# EAGLE library part TLP2168 (library collin)
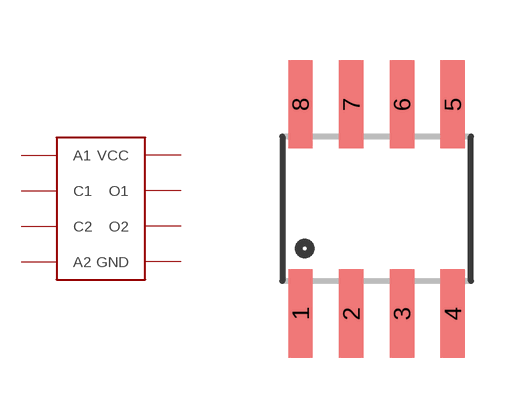
[diagram p3: symbol with the pads of SOIC8; footprint SOIC8]

Designator prefix -

## TLP2168  [SOIC8]
1  A1
2  C1
3  C2
4  A2
5  GND
6  O2
7  O1
8  VCC

## Footprint SOIC8 (pad centres in mm)
smd 0.61 x 2.21: 1 0.635,-0.076; 2 1.905,-0.076; 3 3.175,-0.076; 4 4.445,-0.076; 5 4.445,5.156; 6 3.175,5.156; 7 1.905,5.156; 8 0.635,5.156